# Altium footprint library meder.PcbLib: 1 footprints
Each footprint in its own frame and in the unit in brackets; x right, y up, seen from the top. Pads: shape width x height; smd on the part's side, far side on the other; paste and mask are expansions set on the pad; w line width, h text height; cw(c..) or ccw(c..) is an arc to the next point about the centre after c.
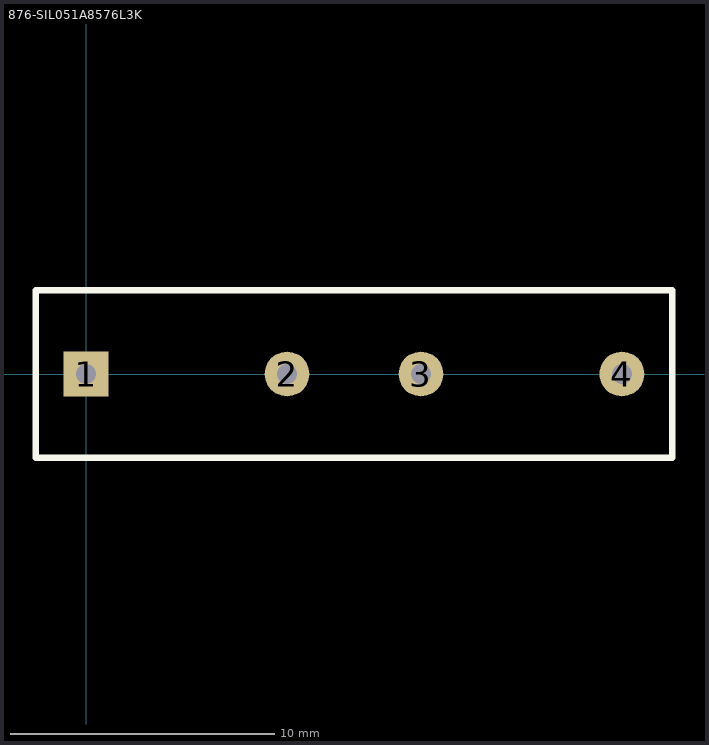
[diagram p0: the footprint, top view; thin cyan lines are the x and y axes]

## 876-SIL051A8576L3K [mm]
pads (4):
  rect 1.7x1.7 hole 0.762: 1(0,0)
  round 1.7 hole 0.762: 2(7.62,0) 3(12.7,0) 4(20.32,0)
Top Overlay:
  lines w0.254: -1.905,-3.175 22.225,-3.175 22.225,3.175 -1.905,3.175 -1.905,-3.175
3D body: height 8.13, standoff 0, extent -1.905,-3.175 22.225,3.175